# Altium footprint library SMD Electrolytic Tantalum capacitors.PcbLib: 9 footprints
Each footprint in its own frame and in the unit in brackets; x right, y up, seen from the top. Pads: shape width x height; smd on the part's side, far side on the other; paste and mask are expansions set on the pad; w line width, h text height; cw(c..) or ccw(c..) is an arc to the next point about the centre after c.
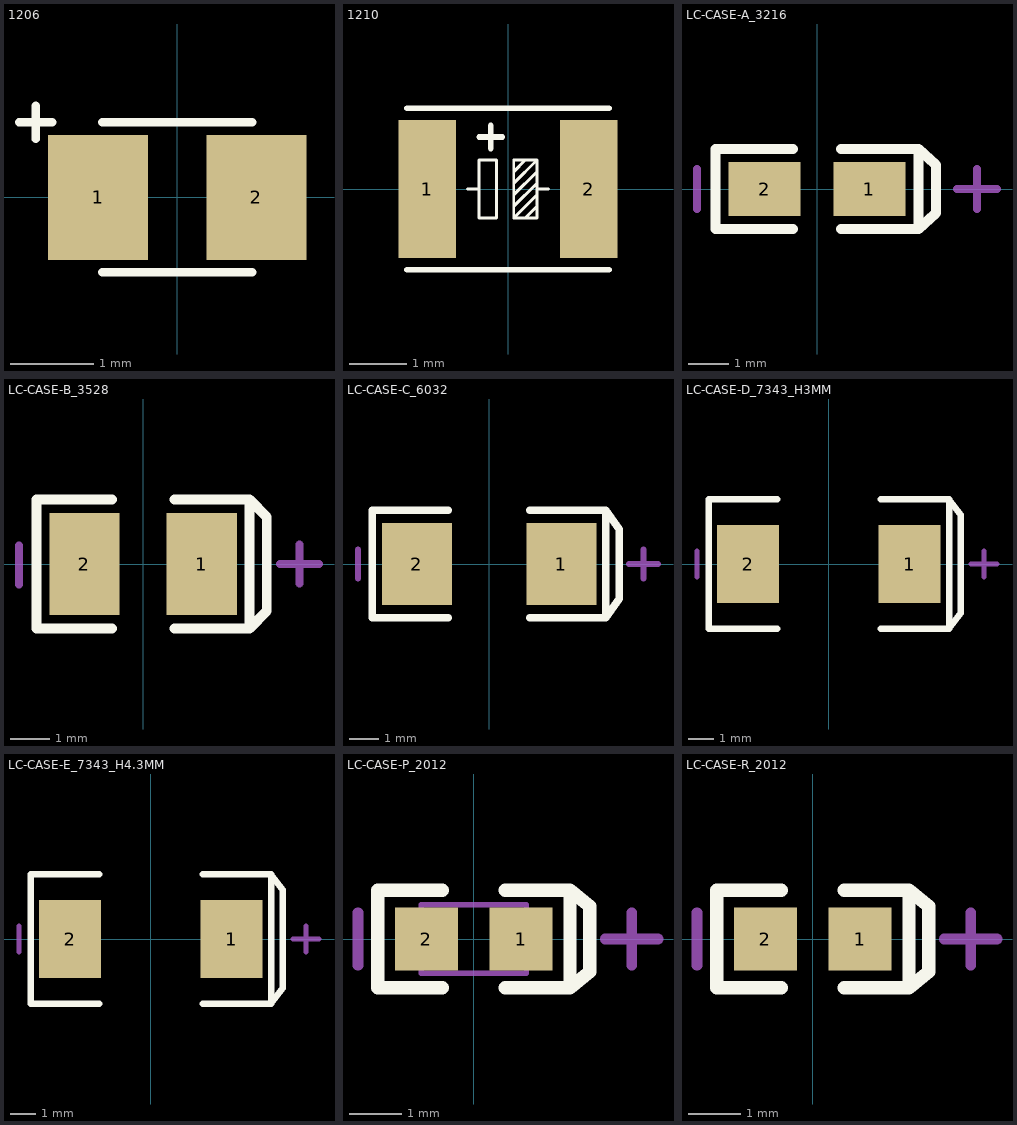
[diagram p0: the footprints below, top view; thin cyan lines are the x and y axes]

## 1206 [mm] "1206"
pads (2):
  rect 1.2x1.5 smd mask+0.05: 1(-0.95,0) 2(0.95,0)
Top Overlay:
  lines w0.1: -1.9,0.9 -1.5,0.9 ; -1.7,0.7 -1.7,1.1 ; -0.9,-0.9 0.9,-0.9 ; -0.9,0.9 0.9,0.9

## 1210 [mm] "1210"
pads (2):
  rect 1x2.4 smd: 1(-1.4,0) 2(1.4,0)
Top Overlay:
  lines w0.05: -0.7,0 -0.5,0 ; 0.1,-0.3 0.5,0.1 ; 0.1,-0.1 0.5,0.3 ; 0.1,0.1 0.5,0.5 ; 0.1,0.3 0.3,0.5 ; 0.3,-0.5 0.5,-0.3 0.5,-0.1 0.1,-0.5 ; 0.5,0 0.7,0 ; 0.1,-0.5 0.5,-0.5 0.5,0.5 ; 0.1,-0.5 0.1,0.5 0.5,0.5 ; -0.5,-0.5 -0.2,-0.5 -0.2,0.5 -0.5,0.5 -0.5,-0.5
  lines w0.1: -1.75,-1.4 1.75,-1.4 ; -1.75,1.4 1.75,1.4 ; -0.5,0.9 -0.1,0.9 ; -0.3,0.7 -0.3,1.1

## LC-CASE-A_3216 [mm]
pads (2):
  rect 1.8x1.35 smd: 1(1.31,0) 2(-1.31,0)
Top Overlay:
  lines w0.254: -0.6,-1.002 -2.537,-1.002 -2.537,1.002 -0.6,1.002 ; 0.6,-1.002 2.537,-1.002 ; 0.6,1.002 2.537,1.002 ; 2.537,-1.002 2.973,-0.6 2.973,0.6 2.537,1.002 ; 2.537,-1.002 2.537,1.002
Mechanical 15:
  lines w0.203: -3,-0.5 -3,0.5 ; 3.5,0 4.5,0 ; 4,-0.5 4,0.5
3D body "User Library-AVX_ACASE.STEP": height 1.71, standoff 0, extent -1.7,-0.84 1.7,0.84

## LC-CASE-B_3528 [mm]
pads (2):
  rect 1.8x2.6 smd: 1(1.5,0) 2(-1.5,0)
Top Overlay:
  lines w0.254: -0.8,-1.65 -2.727,-1.65 -2.727,1.65 -0.8,1.65 ; 0.8,-1.65 2.727,-1.65 ; 0.8,1.65 2.727,1.65 ; 2.727,-1.65 3.163,-1.2 3.163,1.2 2.727,1.65 ; 2.727,-1.65 2.727,1.65
Mechanical 15:
  lines w0.203: -3.175,-0.525 -3.175,0.475 ; 3.5,0 4.5,0 ; 4,-0.5 4,0.5
3D body "User Library-AVX_BCASE.STEP": height 2.03, standoff 0, extent -1.85,-1.465 1.85,1.465

## LC-CASE-C_6032 [mm]
pads (2):
  rect 2.4x2.8 smd: 1(2.48,0) 2(-2.48,0)
Top Overlay:
  lines w0.254: -1.4,-1.85 -4.007,-1.85 -4.007,1.85 -1.4,1.85 ; 1.4,-1.85 4.007,-1.85 ; 1.4,1.85 4.007,1.85 ; 4.007,-1.85 4.47,-1.2 4.47,1.2 4.007,1.85 ; 4.007,-1.85 4.007,1.85
Mechanical 15:
  lines w0.203: -4.5,-0.5 -4.5,0.5 ; 4.8,0 5.8,0 ; 5.3,-0.5 5.3,0.5
3D body "User Library-AVX_C_CASE.STEP": height 2.7, standoff 0, extent -3.05,-1.675 3.05,1.675

## LC-CASE-D_7343_H3MM [mm]
height 3
pads (2):
  rect 2.4x3 smd: 1(3.12,0) 2(-3.12,0)
Top Overlay:
  lines w0.254: -2,-2.5 -4.647,-2.5 -4.647,2.5 -2,2.5 ; 2,-2.5 4.647,-2.5 ; 2,2.5 4.647,2.5 ; 4.647,-2.5 4.647,2.5 ; 4.647,-2.5 5.1,-1.9 5.1,1.9 4.647,2.5
Mechanical 15:
  lines w0.203: -5.1,-0.5 -5.1,0.5 ; 5.5,0 6.5,0 ; 6,-0.5 6,0.5
3D body "User Library-AVX_D_CASE.STEP": height 3.01, standoff 0, extent -3.701,-2.225 3.7,2.225

## LC-CASE-E_7343_H4.3MM [mm]
height 4.3
pads (2):
  rect 2.4x3 smd: 1(3.12,0) 2(-3.12,0)
Top Overlay:
  lines w0.254: -2,-2.5 -4.647,-2.5 -4.647,2.5 -2,2.5 ; 2,-2.5 4.647,-2.5 ; 2,2.5 4.647,2.5 ; 4.647,-2.5 4.647,2.5 ; 4.647,-2.5 5.1,-1.9 5.1,1.9 4.647,2.5
Mechanical 15:
  lines w0.203: -5.1,-0.5 -5.1,0.5 ; 5.5,0 6.5,0 ; 6,-0.5 6,0.5
3D body "User Library-AVX_E_CASE.STEP": height 4.2, standoff 0, extent -3.701,-2.225 3.7,2.225

## LC-CASE-P_2012 [mm]
pads (2):
  rect 1.2x1.2 smd: 1(0.9,0) 2(-0.9,0)
Top Overlay:
  lines w0.254: -0.6,-0.927 -1.827,-0.927 -1.827,0.927 -0.6,0.927 ; 0.6,-0.927 1.827,-0.927 ; 0.6,0.927 1.827,0.927 ; 1.827,-0.927 1.827,0.927 ; 1.827,-0.927 2.2,-0.623 2.2,0.623 1.827,0.927
Mechanical 13:
  lines w0.1: -1,-0.65 -1,0.65 1,0.65 1,-0.65 -1,-0.65
Mechanical 15:
  lines w0.203: -2.2,-0.5 -2.2,0.5 ; 2.5,0 3.5,0 ; 3,-0.5 3,0.5

## LC-CASE-R_2012 [mm]
pads (2):
  rect 1.2x1.2 smd: 1(0.9,0) 2(-0.9,0)
Top Overlay:
  lines w0.254: -0.6,-0.927 -1.827,-0.927 -1.827,0.927 -0.6,0.927 ; 0.6,-0.927 1.827,-0.927 ; 0.6,0.927 1.827,0.927 ; 1.827,-0.927 2.2,-0.623 2.2,0.623 1.827,0.927 ; 1.827,-0.927 1.827,0.927
Mechanical 15:
  lines w0.203: -2.2,-0.5 -2.2,0.5 ; 2.5,0 3.5,0 ; 3,-0.5 3,0.5
3D body "User Library-CaseR_2012-12.STEP": height 1.2, standoff 0, extent -1,-0.65 1,0.65